# Altium schematic symbol library LM4132AMF-1.8_NOPB.SchLib: 1 symbol
Pins are listed as number, name and electrical type; pins without a type are passive.

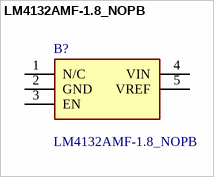
[diagram p0: symbol LM4132AMF-1.8_NOPB]

## LM4132AMF-1.8_NOPB
designator B?
0.05% 20ppm/C Drift Precision Series Voltage Reference with Shutdown Enable; Manufacturer_Name: Texas Instruments; Manufacturer_Part_Number: LM4132AMF-1.8/NOPB; Geometry.Height: 1.45mm; Mouser Part Number: 926-LM4132AMF18NOPB; Mouser Price/Stock: https://www.mouser.co.uk/ProductDetail/Texas-Instruments/LM4132AMF-18-NOPB?qs=QbsRYf82W3HnSfMLOwla5A%3D%3D; Datasheet Link: http://www.ti.com/lit/ds/symlink/lm4132.pdf
footprint SOT95P280X145-5N
pins: 1 N/C, 2 GND, 3 EN, 4 VIN, 5 VREF